# EAGLE library part ADG734 (library analog-devices)
IC SWITCH QUAD SPDT
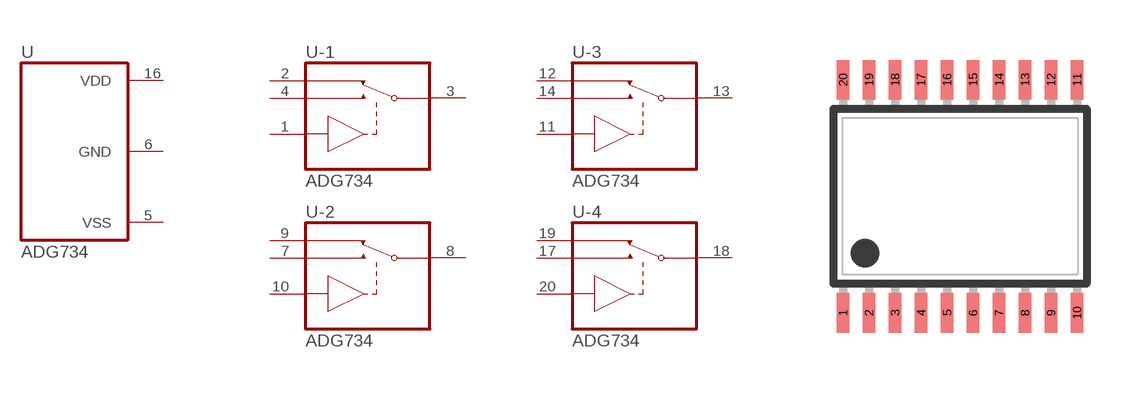
[diagram p81: symbol with the pads of TSSOP20; footprint TSSOP20]

Designator prefix U; gates -1=ADG734-SW -2=ADG734-SW -3=ADG734-SW -4=ADG734-SW P=ADG734

## ADG734RU  [TSSOP20]
1  -1:IN  in
2  -1:SA  pas
3  -1:D  pas
4  -1:SB  pas
5  P:VSS  pwr
6  P:GND  pwr
7  -2:SB  pas
8  -2:D  pas
9  -2:SA  pas
10  -2:IN  in
11  -3:IN  in
12  -3:SA  pas
13  -3:D  pas
14  -3:SB  pas
16  P:VDD  pwr
17  -4:SB  pas
18  -4:D  pas
19  -4:SA  pas
20  -4:IN  in

## Footprint TSSOP20 (pad centres in mm)
Thin Shrink Small Outline Plastic 20
smd 0.305 x 0.991: 1 -2.925,-2.918; 2 -2.275,-2.918; 3 -1.625,-2.918; 4 -0.975,-2.918; 5 -0.325,-2.918; 6 0.325,-2.918; 7 0.975,-2.918; 8 1.625,-2.918; 9 2.275,-2.918; 10 2.925,-2.918; 11 2.925,2.918; 12 2.275,2.918; 13 1.625,2.918; 14 0.975,2.918; 15 0.325,2.918; 16 -0.325,2.918; 17 -0.975,2.918; 18 -1.625,2.918; 19 -2.275,2.918; 20 -2.925,2.918